# EAGLE library part 62004421821 (library Wuerth_Elektronik_eiCan_Pin_&_Socked_Headers_v1.3)
WR-PHD 2.00mm Dual Socket Header, 44 Pins
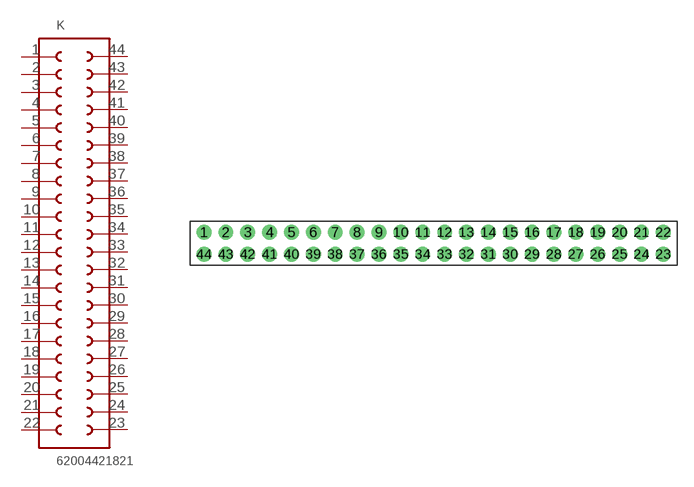
[diagram p302: symbol with the pads of 62004421821; footprint 62004421821]

Designator prefix K

## 62004421821  [62004421821]
1  1  pas
2  2  pas
3  3  pas
4  4  pas
5  5  pas
6  6  pas
7  7  pas
8  8  pas
9  9  pas
10  10  pas
11  11  pas
12  12  pas
13  13  pas
14  14  pas
15  15  pas
16  16  pas
17  17  pas
18  18  pas
19  19  pas
20  20  pas
21  21  pas
22  22  pas
23  23  pas
24  24  pas
25  25  pas
26  26  pas
27  27  pas
28  28  pas
29  29  pas
30  30  pas
31  31  pas
32  32  pas
33  33  pas
34  34  pas
35  35  pas
36  36  pas
37  37  pas
38  38  pas
39  39  pas
40  40  pas
41  41  pas
42  42  pas
43  43  pas
44  44  pas

## Footprint 62004421821 (pad centres in mm)
WR-PHD 2.00mm Dual Socket Header, 44 Pins
drill 0.85 round: 1 -21,1; 2 -19,1; 3 -17,1; 4 -15,1; 5 -13,1; 6 -11,1; 7 -9,1; 8 -7,1; 9 -5,1; 10 -3,1; 11 -1,1; 12 1,1; 13 3,1; 14 5,1; 15 7,1; 16 9,1; 17 11,1; 18 13,1; 19 15,1; 20 17,1; 21 19,1; 22 21,1; 23 21,-1; 24 19,-1; 25 17,-1; 26 15,-1; 27 13,-1; 28 11,-1; 29 9,-1; 30 7,-1; 31 5,-1; 32 3,-1; 33 1,-1; 34 -1,-1; 35 -3,-1; 36 -5,-1; 37 -7,-1; 38 -9,-1; 39 -11,-1; 40 -13,-1; 41 -15,-1; 42 -17,-1; 43 -19,-1; 44 -21,-1